# Altium schematic symbol library dogbone.SchLib: 1 symbol
Pins are listed as number, name and electrical type; pins without a type are passive.

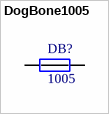
[diagram p0: symbol DogBone1005]

## DogBone1005
designator DB?, comment 1005  (net tie, no BOM)
footprint DogBone1005
pins: 1 Net1, 2 Net2